# Altium schematic symbol library USB_PD_DVD.SchLib: 15 symbols
Pins are listed as number, name and electrical type; pins without a type are passive.

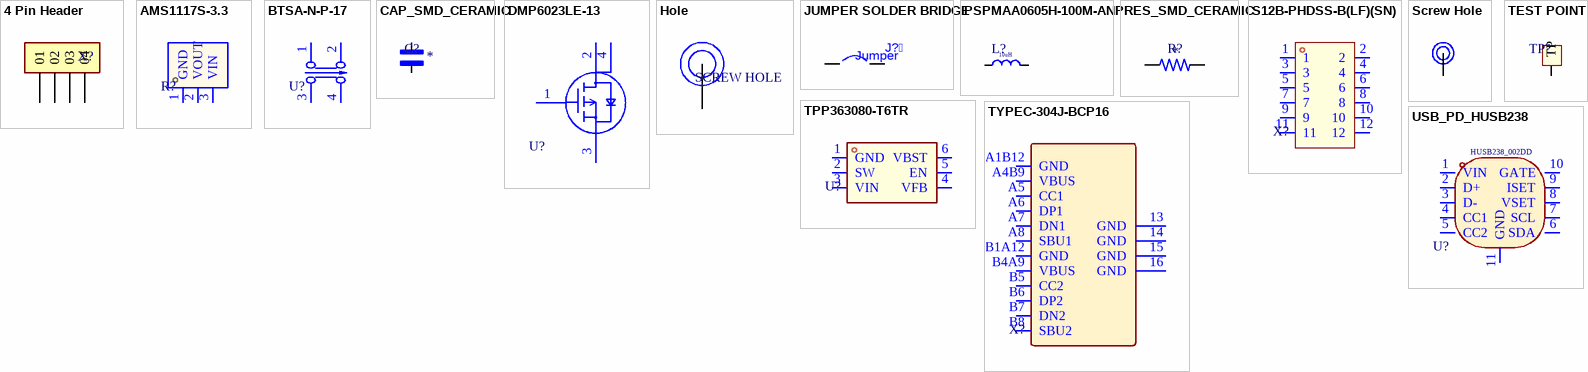
[diagram p0: symbols 4 Pin Header to USB_PD_HUSB238]

## 4 Pin Header
designator X?, comment Header X 5  (value not drawn)
4 pin header pitch 2.54mm; Manifacturing Part Number: C91552; Manifacturing Company Name: BOOMELE(Boom Precision Elec); Data Sheet: https://datasheet.lcsc.com/lcsc/2304140030_BOOMELE-Boom-Precision-Elec-C91552_C91552.pdf; Package: THT P 2.54mm; Price: *; Tolerance: N/A; JLCPCB Part #: C91552
footprint SAMTEC_TS-104-T-A
pins: 01, 02, 03, 04

## AMS1117S-3.3
designator R?, comment 3.3V LDO  (value not drawn)
70dB@(120Hz) 1A Fixed 3.3V Positive 30V SOT-89-3 Voltage Regulators - Linear, Low Drop Out (LDO) Regulators ROHS; Manifacturing Part Number: AMS1117S-3.3; Manifacturing Company Name: JSMSEMI; Data Sheet: https://www.lcsc.com/datasheet/C917152.pdf; Package: SOT-89-3; Price: *; Tolerance: N/A; JLCPCB Part #: JSMSEMI; Value: *
footprint SOT-89-3_L4.5-W2.5-P1.50-LS4.1-BR
pins: 1 GND, 2 VOUT, 3 VIN

## BTSA-N-P-17
designator U?, comment THT Button  (value not drawn)
Non-Latching Through Hole 10,000 Cycles Without 2.6N 100mA Through Hole Pushbutton Switches ROHS; Manifacturing Part Number: BTSA-N-P-17; Manifacturing Company Name: ROCPU Switches; Data Sheet: https://www.lcsc.com/datasheet/C2693641.pdf; Package: THT; Price: N/A; Tolerance: N/A; JLCPCB Part #: C2693641; Value: N/A
footprint SW-TH_BTSA-X-P-17
pins: 1, 2, 3, 4

## CAP_SMD_CERAMIC
designator C?, comment SMD capacitor  (value not drawn)
Tolerance: ±10%; Package: 0603; Price: *; Voltage: *; JLCPCB Part #: *; Value: *
footprint CAP 0402
footprint CAP_0603
footprint CAP_0805
footprint CAP_1210
footprint CAP_2220
pins: 1, 2

## DMP6023LE-13
designator U?, comment P-Channel  MOSFET  (value not drawn)
60V 7A 2W 35mΩ@4.5V,4A 3V@250uA 1 P-Channel SOT-223 MOSFETs ROHS; Manifacturing Part Number: DMP6023LE-13; Manifacturing Company Name: DIODES; Data Sheet: https://www.lcsc.com/datasheet/C154901.pdf; Package: SOT-223; Price: *; Tolerance: N/A; JLCPCB Part #: C154901
footprint SOT-223-4_L6.5-W3.5-P2.30-LS7.0-BR
pins: 1 G, 2 D, 3 S, 4 D

## Hole
designator SH?, comment SCREW HOLE
footprint PCB hole
pins: 1

## JUMPER SOLDER BRIDGE
designator J?, comment Jumper
SMD JUMPER
footprint PAD-JUMPER-2-NC_BY_PASTE_YES_SILK
pins: 1, 2

## PSPMAA0605H-100M-ANP
designator L?, comment value 10uH  (hidden comment: POWER INDUCTOR)
FIXED IND 10uH 4.5A 57mΩ SMD,6.6x7.1mm; Manifacturing Part Number: PSPMAA0605H-100M-ANP; Manifacturing Company Name: PROD Tech; Data Sheet: https://www.lcsc.com/datasheet/C2983092.pdf; Package: SMD,6.6x7.1mm; Price: *
footprint INDP7166X50N (Precision Wire Wound Inductor, 2-Leads, Body 7.10x6.60mm, IPC Medium Density)
pins: 1, 2

## RES_SMD_CERAMIC
designator R?, comment SMD resistor  (value not drawn)
Tolerance: ±5%; Package: 0603; Price: *; JLCPCB Part #: *; Value: *
footprint RES 0402
footprint RES_0603
footprint RES_0805
footprint RES_1206
footprint RES_2512
pins: 1, 2

## S12B-PHDSS-B(LF)(SN)
designator X?, comment Connector  (value not drawn)
2x6P 12P PHD Tin 2mm 6 -25℃~+85℃ 3A 2 2mm Copper Alloy Right Angle Through Hole,Right Angle,P=2mm Wire To Board Connector ROHS; Manifacturing Part Number: S12B-PHDSS-B(LF)(SN); Manifacturing Company Name: JST; Tolerance: ±5%; Data Sheet: https://www.lcsc.com/datasheet/C493114.pdf; Package: Through Hole,Right Angle,P=2mm; Price: *; JLCPCB Part #: C493114
pins: 1, 2, 3, 4, 5, 6, 7, 8, 9, 10, 11, 12

## Screw Hole
designator SCREW ?, comment SCREW Hole  (value not drawn)
footprint Screw Hole
pins: 1

## TEST POINT
designator TP?  (value not drawn)
footprint TESTPOINT
pins: 1 TP

## TPP363080-T6TR
designator U?, comment Buck IC  (value not drawn)
Buck Adjustable 4.5V~36V 3A TSOT-23-6 DC-DC Converters ROHS; Manifacturing Part Number: TPP363080-T6TR; Manifacturing Company Name: 3PEAK; Data Sheet: https://www.lcsc.com/datasheet/C18236275.pdf; Package: TSOT-23-6; Price: *; Tolerance: N/A; JLCPCB Part #: C18236275
footprint SOT-23-6_L2.9-W1.6-P0.95-LS2.8-BR
pins: 1 GND, 2 SW, 3 VIN, 4 VFB, 5 EN, 6 VBST

## TYPEC-304J-BCP16
designator X?, comment USB-C connector  (value not drawn)
5A USB 3.1 1 Surface Mount, Right Angle 16P Female -40℃~+85℃ Type-C SMD USB Connectors ROHS; Manifacturing Part Number: TYPEC-304J-BCP16; Manifacturing Company Name: XUNPU; Data Sheet: https://www.lcsc.com/datasheet/C2835315.pdf; Package: SMD; Price: *; Tolerance: N/A; JLCPCB Part #: C2835315
footprint USB-C-SMD_TYPEC-304J-BCP16
pins: 13 GND, 14 GND, 15 GND, 16 GND, A1B12 GND, A4B9 VBUS, A5 CC1, A6 DP1, A7 DN1, A8 SBU1, B1A12 GND, B4A9 VBUS, B5 CC2, B6 DP2, B7 DN2, B8 SBU2

## USB_PD_HUSB238
designator U?, comment value HUSB238_002DD  (hidden comment: USB-PD-IC)
DFN-10L(3x3) USB Converters ROHS; Manifacturing Company Name: Hynetek; Manifacturing Part Number: HUSB238_002DD; Data Sheet: https://www.lcsc.com/datasheet/C7471904.pdf; Package: DFN-10L(3x3); Price: *; Tolerance: N/A; JLCPCB Part #: C7471904
footprint DFN-10
pins: 1 VIN, 2 D+, 3 D-, 4 CC1, 5 CC2, 6 SDA, 7 SCL, 8 VSET, 9 ISET, 10 GATE, 11 GND